# EAGLE library part DRV8835 (library MotorDrivers)
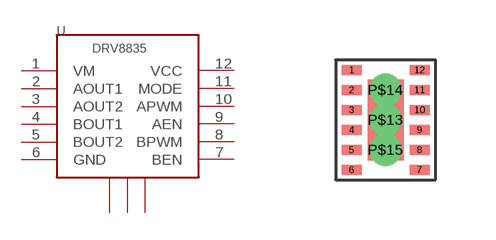
[diagram p3: symbol with the pads of WSON12; footprint WSON12]

Designator prefix U

## DRV8835  [WSON12]
1  VM
2  AOUT1
3  AOUT2
4  BOUT1
5  BOUT2
6  GND
7  BEN
8  BPWM
9  AEN
10  APWM
11  MODE
12  VCC
P$13  GND-2
P$14  GND-3
P$15  GND1

## Footprint WSON12 (pad centres in mm)
smd 0.5 x 0.25: 1 -0.85,1.25; 2 -0.85,0.75; 3 -0.85,0.25; 4 -0.85,-0.25; 5 -0.85,-0.75; 6 -0.85,-1.25; 7 0.85,-1.25; 8 0.85,-0.75; 9 0.85,-0.25; 10 0.85,0.25; 11 0.85,0.75; 12 0.85,1.25
drill 0.3 pad 0.406: P$13 0,0; P$14 0,0.75; P$15 0,-0.75